# EAGLE library part SSW-112-22-XXX-D-VS (library samtec)
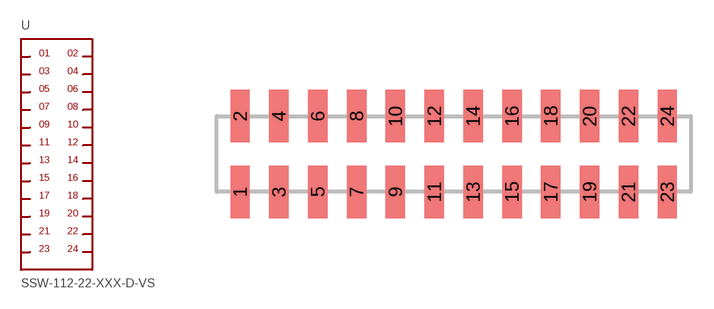
[diagram p6: symbol with the pads of SSW-112-22-XXX-D-VS; footprint SSW-112-22-XXX-D-VS]

Designator prefix -

## SSW-112-22-XXX-D-VS  [SSW-112-22-XXX-D-VS]
1  1
2  2
3  3
4  4
5  5
6  6
7  7
8  8
9  9
10  10
11  11
12  12
13  13
14  14
15  15
16  16
17  17
18  18
19  19
20  20
21  21
22  22
23  23
24  24

## Footprint SSW-112-22-XXX-D-VS (pad centres in mm)
smd 1.27 x 3.429: 1 -13.97,-2.477; 2 -13.97,2.477; 3 -11.43,-2.477; 4 -11.43,2.477; 5 -8.89,-2.477; 6 -8.89,2.477; 7 -6.35,-2.477; 8 -6.35,2.477; 9 -3.81,-2.477; 10 -3.81,2.477; 11 -1.27,-2.477; 12 -1.27,2.477; 13 1.27,-2.477; 14 1.27,2.477; 15 3.81,-2.477; 16 3.81,2.477; 17 6.35,-2.477; 18 6.35,2.477; 19 8.89,-2.477; 20 8.89,2.477; 21 11.43,-2.477; 22 11.43,2.477; 23 13.97,-2.477; 24 13.97,2.477